# Altium schematic symbol library SCH - DAC - AKM AK4456.Schlib: 1 symbol
Pins are listed as number, name and electrical type; pins without a type are passive.

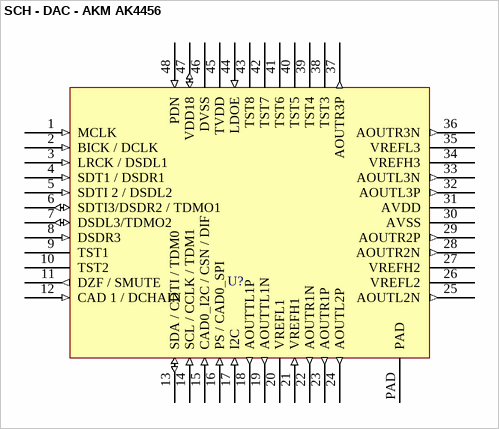
[diagram p0: symbol SCH - DAC - AKM AK4456]

## SCH - DAC - AKM AK4456
designator U?
footprint 48QFN7X7_N (QFN, 48-Leads, Body 7x7mm, Pitch 0.5mm, Thermal Pad 5.2x5.2mm, IPC Medium Density)
pins: 1 MCLK (in) "External Master Clock Input Pin External Master Clock Input PinExternal Master Clock Input Pin External Master Clock Input PinExternal Master Clock Input Pin External Master Clock Input Pin External Master Clock Input PinExternal Master Clock Input PinExternal Master Clock Input Pin External Master Clock Input PinExternal Master Clock Input Pin External Master Clock Input Pin External Master Clock Input Pin External Master Clock Input PinExternal", 2 BICK / DCLK (in) "PinAudio Serial Data Clock Pin Audio Serial Data Clock Pin Audio Serial Data Clock PinAudio Serial Data Clock PinAudio Serial Data Clock Pin Audio Serial Data Clock Pin Audio Serial Data Clock PinAudio Serial Data Clock PinAudio Serial Data Clock Pin Audio Serial Data Clock Pin Audio Serial Data Clock Pin Audio Serial Data Clock Pin in PCM mode PCM mode PCM / modeDSD Clock Pin in DSD mode DSD Clock Pin in mode DSD Clock Pin in modeDSD Clock Pin in DSD mode DSD Clock Pin in mode DSD Clock Pin in mode DSD Clock Pin in mode DSD Clock Pin in mode DSD", 3 LRCK / DSDL1 (in) "Channel Clock Pin Input Channel Clock Pin Input Channel Clock Pin Input Channel Clock Pin Input Channel Clock Pin Input Channel Clock Pin Input Channel Clock Pin Input Channel Clock Pin Input Channel Clock Pin in PCM modein PCM modein PCM mode in PCM mode in PCM mode / Audio Serial Data Input in Audio Serial Data Input in Audio Serial Data Input in Audio Serial Data Input in Audio Serial Data Input in Audio Serial Data Input in Audio Serial Data Input in Audio Serial Data Input in Audio Serial Data Input in Audio Serial Data Input in Audio Serial Data Input in Audio Serial Data Input in Audio Serial Data Input in DSD mode", 4 SDT1 / DSDR1 (in) "Audio Serial Data Input Audio Serial Data Input Audio Serial Data Input Audio Serial Data Input Audio Serial Data Input Audio Serial Data Input Audio Serial Data Input Audio Serial Data Input Audio Serial Data Input Audio Serial Data Input Audio Serial Data Input Audio Serial Data Input in PCM modein PCM mode in PCM mode in PCM mode in PCM mode / Audio Serial Data Input in Audio Serial Data Input in Audio Serial Data Input in Audio Serial Data Input in Audio Serial Data Input in Audio Serial Data Input in Audio Serial Data Input in Audio Serial Data Input in Audio Serial Data Input in Audio Serial Data Input in Audio Serial Data Input in Audio Serial Data Input in Audio Serial Data Input in DSD mode", 5 SDTI 2 / DSDL2 (in) "Audio Serial Data in PCM mode / Audio Serial Data Input in DSD mode", 6 SDTI3/DSDR2 / TDMO1 (io) "Audio Serial Data Input DSD mode / Audio Serial Data Output in Daisy Chain mode", 7 DSDL3/TDMO2 (io), 8 DSDR3 (in), 9 TST1, 10 TST2, 11 DZF / SMUTE (out) "Zero Input Detect", 12 CAD 1 / DCHAIN (in) "Chip Address 0 Pin in I2C", 13 SDA / CDTI / TDM0 (io) "Control Data Input Pin in I2C Bus serial control mode / Control Data Input Pin in 3-wire serial control mode / TDM Mode select pin in Parallel control mode", 14 SCL / CCLK / TDM1 (in) "Control Data Input Pin in I2C Bus serial control mode / Control Data Input Pin in 3-wire serial control mode / TDM Mode select pin in Parallel control mode", 15 CAD0_I2C / CSN / DIF (in) "Chip Address 0 Pin in I2C Bus serial control mode / Chip Select Pin in 3-wire serial control mode / Audio Data Format select in Parallel control mode "L": 32-bit MSB, "H": 32-bit I2S", 16 PS / CAD0_SPI (in) "Control Mode Select Pin / Chip Address 0 Pin in 3-wire werial control mode", 17 I2C (in) "Control Mode Select Pin", 18 AOUTTL1P (out) "L ch Positice Analog Output 1 Pin", 19 AOUTTL1N (out) "L ch Negativ Analog Output 1 Pin", 20 VREFL1 "Negative Voltage Reference Input Pin, AVSS", 21 VREFH1 (in) "Positive Voltage Reference Input Pin, AVDD", 22 AOUTR1N (out) "R ch Negative Analog Output 1 Pin", 23 AOUTR1P (out) "R ch Positive Analog Output 1 Pin", 24 AOUTL2P (out) "L ch Positive Analog Output 2 Pin", 25 AOUTL2N (out) "L ch Negative Analog Output 2 Pin", 26 VREFL2 "Positive Volatge Reference Input Pin, AVDD", 27 VREFH2 "Positive Volatge Reference Input Pin, AVDD", 28 AOUTR2N (out) "R ch Negative Analog Output 2 Pin", 29 AOUTR2P (out) "R ch Positive Analog Output 2 Pin", 30 AVSS (power) "Analog Ground Pin", 31 AVDD (power) "Analog Power Supply Pin, 3.0-5.5V", 32 AOUTL3P (out) "L ch Positive Analog Output 2 Pin", 33 AOUTL3N (out) "L ch Positive Analog Output 2 Pin", 34 VREFH3 "Postive Volatge Reference Input Pin, AVSS", 35 VREFL3 "Negative Volatge Reference Input Pin, AVSS", 36 AOUTR3N (out) "L ch Positive Analog Output 2 Pin", 37 AOUTR3P (out) "R ch Positive Analog Output 2 Pin", 38 TST3, 39 TST4, 40 TST5, 41 TST6, 42 TST7, 43 TST8, 44 LDOE (in) "Internal LDO Enable Pin", 45 TVDD (power) "Digital Power Supply Pin, 3.0-3.6V", 46 DVSS (power) "Digital Ground Pin", 47 VDD18 (io) "LDO Output Pin / 1.8V Power Input Pin", 48 PDN (in) "Power-Down & Reset Pin", PAD (power) "Exposed PAD"